# Altium footprint library UJ32CHGDSMT3P24TR.PcbLib: 1 footprints
Each footprint in its own frame and in the unit in brackets; x right, y up, seen from the top. Pads: shape width x height; smd on the part's side, far side on the other; paste and mask are expansions set on the pad; w line width, h text height; cw(c..) or ccw(c..) is an arc to the next point about the centre after c.
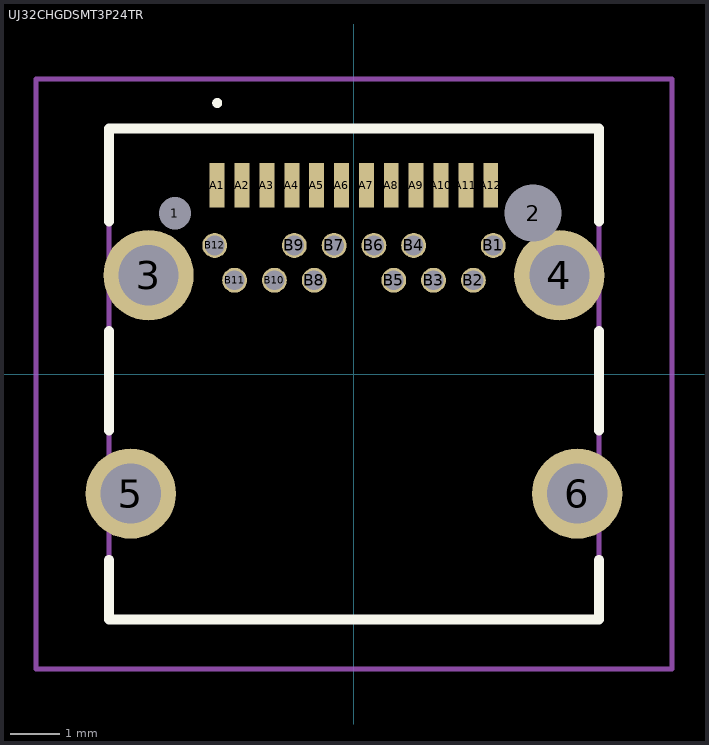
[diagram p0: the footprint, top view; thin cyan lines are the x and y axes]

## UJ32CHGDSMT3P24TR [mm]
pads (30):
  round 0.325 hole 0.65 unplated: 1(-3.6,3.235)
  round 0.575 hole 1.15 unplated: 2(3.6,3.235)
  round 1.815 hole 1.21: 3(-4.13,1.985) 4(4.13,1.985) 5(-4.49,-2.405) 6(4.49,-2.405)
  rect 0.3x0.9 smd: A1(-2.75,3.795) A2(-2.25,3.795) A3(-1.75,3.795) A4(-1.25,3.795) A5(-0.75,3.795) A6(-0.25,3.795) A7(0.25,3.795) A8(0.75,3.795) A9(1.25,3.795) A10(1.75,3.795) A11(2.25,3.795) A12(2.75,3.795)
  round 0.5 hole 0.4: B1(2.8,2.585) B2(2.4,1.885) B3(1.6,1.885) B4(1.2,2.585) B5(0.8,1.885) B6(0.4,2.585) B7(-0.4,2.585) B8(-0.8,1.885) B9(-1.2,2.585) B10(-1.6,1.885) B11(-2.4,1.885) B12(-2.8,2.585)
Top Overlay:
  lines w0.1: -2.75,5.4 -2.75,5.4 ; -2.75,5.4 ccw(c-2.75,5.45) -2.75,5.5 ; -2.75,5.4 cw(c-2.75,5.45) -2.75,5.5 ; -2.75,5.5 -2.75,5.5
  lines w0.2: -4.925,-3.735 -4.925,-4.935 4.925,-4.935 4.925,-3.735 ; -4.925,-1.135 -4.925,0.865 ; -4.925,3.065 -4.925,4.935 4.925,4.935 4.925,3.065 ; 4.925,-1.135 4.925,0.865
Mechanical 15:
  lines w0.1: -4.925,-4.935 4.925,-4.935 4.925,4.935 -4.925,4.935 -4.925,-4.935
Mechanical 20:
  lines w0.1: -6.397,-5.935 6.398,-5.935 6.398,5.935 -6.397,5.935 -6.397,-5.935